# Altium footprint library TPS562201DDCR.PcbLib: 3 footprints
Each footprint in its own frame and in the unit in brackets; x right, y up, seen from the top. Pads: shape width x height; smd on the part's side, far side on the other; paste and mask are expansions set on the pad; w line width, h text height; cw(c..) or ccw(c..) is an arc to the next point about the centre after c.
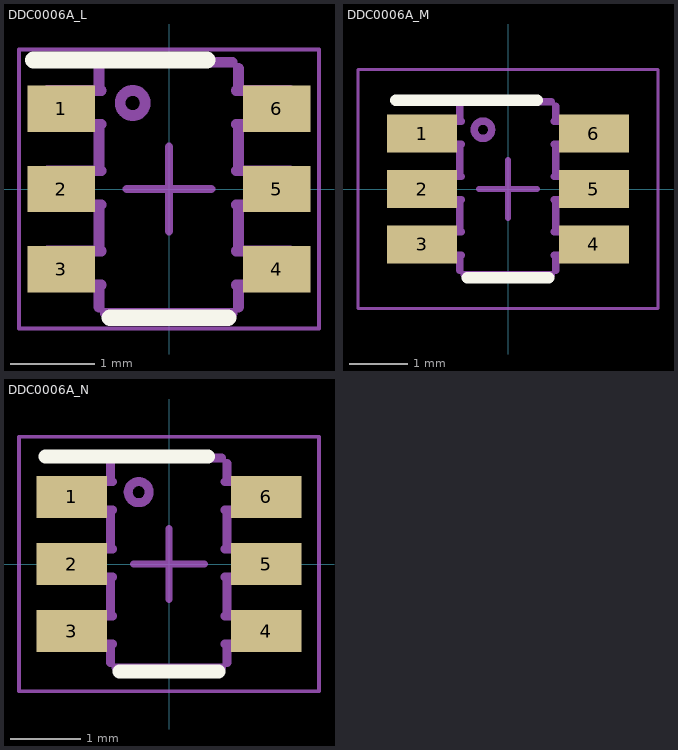
[diagram p0: the footprints below, top view; thin cyan lines are the x and y axes]

## DDC0006A_L [mm]
pads (6):
  rect 0.8x0.55 smd paste+0 mask+0.051: 1(-1.275,0.95) 2(-1.275,0) 3(-1.275,-0.95) 4(1.275,-0.95) 5(1.275,0) 6(1.275,0.95)
Top Overlay:
  lines w0.2: -1.603,1.525 0.45,1.525 ; -0.7,-1.524 0.7,-1.524
Mechanical 13:
  lines w0.127: -0.828,-1.395 -0.828,-1.392 -0.828,-1.135 ; -0.828,-0.735 -0.828,-0.185 ; -0.828,0.215 -0.828,0.765 ; -0.828,1.165 -0.828,1.422 -0.828,1.426 ; -0.801,-1.135 -0.903,-1.135 -1.128,-1.135 -1.159,-1.135 -1.251,-1.135 -1.437,-1.135 -1.437,-0.735 -1.251,-0.735 -1.159,-0.735 -1.128,-0.735 -0.903,-0.735 -0.801,-0.735 ; -0.801,-0.185 -0.903,-0.185 -1.128,-0.185 -1.159,-0.185 -1.251,-0.185 -1.437,-0.185 -1.437,0.215 -1.251,0.215 -1.159,0.215 -1.128,0.215 -0.903,0.215 -0.801,0.215 ; -0.801,0.765 -0.903,0.765 -1.128,0.765 -1.159,0.765 -1.251,0.765 -1.437,0.765 -1.437,1.165 -1.251,1.165 -1.159,1.165 -1.128,1.165 -0.903,1.165 -0.801,1.165 ; -0.754,-1.47 -0.75,-1.47 0.743,-1.47 0.747,-1.47 ; -0.754,1.5 -0.75,1.5 0.743,1.5 0.747,1.5 ; 0.795,-1.135 0.896,-1.135 1.122,-1.135 1.152,-1.135 1.245,-1.135 1.431,-1.135 1.431,-0.735 1.245,-0.735 1.152,-0.735 1.122,-0.735 0.896,-0.735 0.795,-0.735 ; 0.795,-0.185 0.896,-0.185 1.122,-0.185 1.152,-0.185 1.245,-0.185 1.431,-0.185 1.431,0.215 1.245,0.215 1.152,0.215 1.122,0.215 0.896,0.215 0.795,0.215 ; 0.795,0.765 0.896,0.765 1.122,0.765 1.152,0.765 1.245,0.765 1.431,0.765 1.431,1.165 1.245,1.165 1.152,1.165 1.122,1.165 0.896,1.165 0.795,1.165 ; 0.822,-1.395 0.822,-1.392 0.822,-1.135 ; 0.822,-0.735 0.822,-0.185 ; 0.822,0.215 0.822,0.765 ; 0.822,1.165 0.822,1.422 0.822,1.426 ; -0.578,1.018 cw(c-0.43,1.018) -0.281,1.018 cw(c-0.43,1.018) -0.578,1.018
Mechanical 15:
  lines w0.05: -1.775,-1.65 -1.775,1.65 1.775,1.65 1.775,-1.65 -1.775,-1.65
  lines w0.1: -0.5,0 0.5,0 ; 0,-0.5 0,0.5

## DDC0006A_M [mm]
pads (6):
  rect 1.2x0.65 smd paste+0 mask+0.051: 1(-1.475,0.95) 2(-1.475,0) 3(-1.475,-0.95) 4(1.475,-0.95) 5(1.475,0) 6(1.475,0.95)
Top Overlay:
  lines w0.2: -1.925,1.525 0.5,1.525 ; -0.7,-1.524 0.7,-1.524
Mechanical 13:
  lines w0.127: -0.828,-1.395 -0.828,-1.392 -0.828,-1.135 ; -0.828,-0.735 -0.828,-0.185 ; -0.828,0.215 -0.828,0.765 ; -0.828,1.165 -0.828,1.422 -0.828,1.426 ; -0.801,-1.135 -0.903,-1.135 -1.128,-1.135 -1.159,-1.135 -1.251,-1.135 -1.437,-1.135 -1.437,-0.735 -1.251,-0.735 -1.159,-0.735 -1.128,-0.735 -0.903,-0.735 -0.801,-0.735 ; -0.801,-0.185 -0.903,-0.185 -1.128,-0.185 -1.159,-0.185 -1.251,-0.185 -1.437,-0.185 -1.437,0.215 -1.251,0.215 -1.159,0.215 -1.128,0.215 -0.903,0.215 -0.801,0.215 ; -0.801,0.765 -0.903,0.765 -1.128,0.765 -1.159,0.765 -1.251,0.765 -1.437,0.765 -1.437,1.165 -1.251,1.165 -1.159,1.165 -1.128,1.165 -0.903,1.165 -0.801,1.165 ; -0.754,-1.47 -0.75,-1.47 0.743,-1.47 0.747,-1.47 ; -0.754,1.5 -0.75,1.5 0.743,1.5 0.747,1.5 ; 0.795,-1.135 0.896,-1.135 1.122,-1.135 1.152,-1.135 1.245,-1.135 1.431,-1.135 1.431,-0.735 1.245,-0.735 1.152,-0.735 1.122,-0.735 0.896,-0.735 0.795,-0.735 ; 0.795,-0.185 0.896,-0.185 1.122,-0.185 1.152,-0.185 1.245,-0.185 1.431,-0.185 1.431,0.215 1.245,0.215 1.152,0.215 1.122,0.215 0.896,0.215 0.795,0.215 ; 0.795,0.765 0.896,0.765 1.122,0.765 1.152,0.765 1.245,0.765 1.431,0.765 1.431,1.165 1.245,1.165 1.152,1.165 1.122,1.165 0.896,1.165 0.795,1.165 ; 0.822,-1.395 0.822,-1.392 0.822,-1.135 ; 0.822,-0.735 0.822,-0.185 ; 0.822,0.215 0.822,0.765 ; 0.822,1.165 0.822,1.422 0.822,1.426 ; -0.578,1.018 ccw(c-0.43,1.018) -0.281,1.018 ccw(c-0.43,1.018) -0.578,1.018
Mechanical 15:
  lines w0.05: -2.575,-2.05 -2.575,2.05 2.575,2.05 2.575,-2.05 -2.575,-2.05
  lines w0.1: -0.5,0 0.5,0 ; 0,-0.5 0,0.5

## DDC0006A_N [mm]
pads (6):
  rect 1x0.6 smd paste+0 mask+0.051: 1(-1.375,0.95) 2(-1.375,0) 3(-1.375,-0.95) 4(1.375,-0.95) 5(1.375,0) 6(1.375,0.95)
Top Overlay:
  lines w0.2: -1.75,1.525 0.55,1.525 ; -0.7,-1.524 0.7,-1.524
Mechanical 13:
  lines w0.127: -0.828,-1.395 -0.828,-1.392 -0.828,-1.135 ; -0.828,-0.735 -0.828,-0.185 ; -0.828,0.215 -0.828,0.765 ; -0.828,1.165 -0.828,1.422 -0.828,1.426 ; -0.801,-1.135 -0.903,-1.135 -1.128,-1.135 -1.159,-1.135 -1.251,-1.135 -1.437,-1.135 -1.437,-0.735 -1.251,-0.735 -1.159,-0.735 -1.128,-0.735 -0.903,-0.735 -0.801,-0.735 ; -0.801,-0.185 -0.903,-0.185 -1.128,-0.185 -1.159,-0.185 -1.251,-0.185 -1.437,-0.185 -1.437,0.215 -1.251,0.215 -1.159,0.215 -1.128,0.215 -0.903,0.215 -0.801,0.215 ; -0.801,0.765 -0.903,0.765 -1.128,0.765 -1.159,0.765 -1.251,0.765 -1.437,0.765 -1.437,1.165 -1.251,1.165 -1.159,1.165 -1.128,1.165 -0.903,1.165 -0.801,1.165 ; -0.754,-1.47 -0.75,-1.47 0.743,-1.47 0.747,-1.47 ; -0.754,1.5 -0.75,1.5 0.743,1.5 0.747,1.5 ; 0.795,-1.135 0.896,-1.135 1.122,-1.135 1.152,-1.135 1.245,-1.135 1.431,-1.135 1.431,-0.735 1.245,-0.735 1.152,-0.735 1.122,-0.735 0.896,-0.735 0.795,-0.735 ; 0.795,-0.185 0.896,-0.185 1.122,-0.185 1.152,-0.185 1.245,-0.185 1.431,-0.185 1.431,0.215 1.245,0.215 1.152,0.215 1.122,0.215 0.896,0.215 0.795,0.215 ; 0.795,0.765 0.896,0.765 1.122,0.765 1.152,0.765 1.245,0.765 1.431,0.765 1.431,1.165 1.245,1.165 1.152,1.165 1.122,1.165 0.896,1.165 0.795,1.165 ; 0.822,-1.395 0.822,-1.392 0.822,-1.135 ; 0.822,-0.735 0.822,-0.185 ; 0.822,0.215 0.822,0.765 ; 0.822,1.165 0.822,1.422 0.822,1.426 ; -0.578,1.018 ccw(c-0.43,1.018) -0.281,1.018 ccw(c-0.43,1.018) -0.578,1.018
Mechanical 15:
  lines w0.05: -2.125,-1.8 -2.125,1.8 2.125,1.8 2.125,-1.8 -2.125,-1.8
  lines w0.1: -0.5,0 0.5,0 ; 0,-0.5 0,0.5